# EAGLE library part MIC4681BM (library vreg-pulse)
Step-down voltage-mode switching regulator.
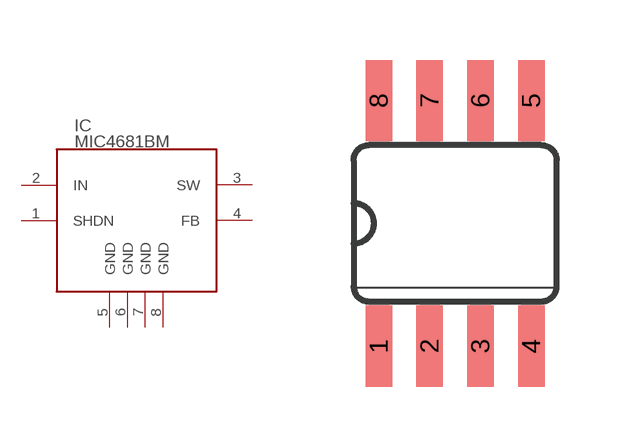
[diagram p0: symbol with the pads of POW-SO-08; footprint POW-SO-08]

Designator prefix IC

## MIC4681BM-SOP8  [POW-SO-08]
1  SHDN  in
2  IN  pwr
3  SW  pas
4  FB  in
5  GND  pwr
6  GND  pwr
7  GND  pwr
8  GND  pwr

## Footprint POW-SO-08 (pad centres in mm)
Small Outline Package
smd 0.66 x 2.032: 1 -1.905,-3.073; 2 -0.635,-3.073; 3 0.635,-3.073; 4 1.905,-3.073; 5 1.905,3.073; 6 0.635,3.073; 7 -0.635,3.073; 8 -1.905,3.073